# Altium footprint library GRM32ER71E226ME15L.PcbLib: 3 footprints
Each footprint in its own frame and in the unit in brackets; x right, y up, seen from the top. Pads: shape width x height; smd on the part's side, far side on the other; paste and mask are expansions set on the pad; w line width, h text height; cw(c..) or ccw(c..) is an arc to the next point about the centre after c.
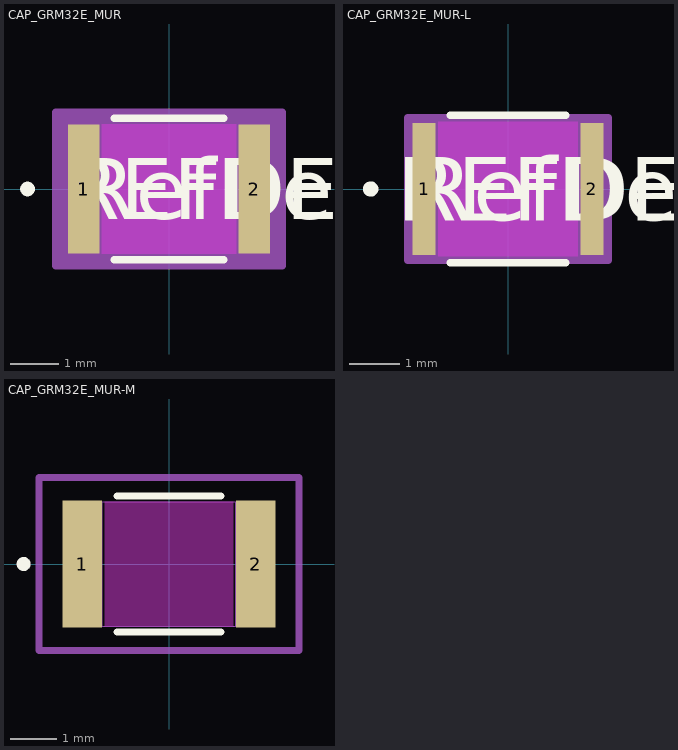
[diagram p0: the footprints below, top view; thin cyan lines are the x and y axes]

## CAP_GRM32E_MUR [mil]
pads (2):
  rect 26x106 smd paste+0 mask+0: 1(-70,0) 2(70,0)
Top Layer keep-out:
  region: -55,-51 -55,51 55,51 55,-51
Top Overlay:
  circle w6: c-116,0 r3
  lines w6: -44.89,-58 44.89,-58 ; -44.89,58 44.89,58
  text "REFDES" at -87.5,-25 h50
  text "RefDes" at -75,-25 h50
Keep-Out Layer:
  region: -55,-53 -55,53 55,53 55,-53
Mechanical 13:
  circle w0: c-65,0 r3
  lines w1: -69,-53 -69,53 ; -69,-53 69,-53 ; -69,-53 -57,-53 -57,53 -69,53 ; -69,-53 -69,53 ; -69,53 69,53 ; 69,-53 69,53 ; 69,-53 69,53 ; 69,-53 57,-53 57,53 69,53
  text "RefDes2" at -87.5,-25 h50
Mechanical 15:
  region: 93,-63 -93,-63 -93,63 93,63
  lines w6: -93,-63 93,-63 93,63 -93,63 -93,-63
3D body "CAP_GRM32E_MUR.step": height 105.98, standoff 0, extent -69.02,-52.99 69.02,52.99

## CAP_GRM32E_MUR-L [mil]
pads (2):
  rect 18x104 smd paste+0 mask+0: 1(-66,0) 2(66,0)
Top Layer keep-out:
  region: -55,-51 -55,51 55,51 55,-51
Top Overlay:
  circle w6: c-108,0 r3
  lines w6: -45.35,-58 45.35,-58 ; -45.35,58 45.35,58
  text "REFDES" at -87.5,-25 h50
  text "RefDes" at -75,-25 h50
Keep-Out Layer:
  region: -55,-53 -55,53 55,53 55,-53
Mechanical 13:
  circle w0: c-61,0 r3
  lines w1: -69,-53 -69,53 ; -69,-53 69,-53 ; -69,-53 -57,-53 -57,53 -69,53 ; -69,-53 -69,53 ; -69,53 69,53 ; 69,-53 69,53 ; 69,-53 69,53 ; 69,-53 57,-53 57,53 69,53
  text "RefDes2" at -87.5,-25 h50
Mechanical 15:
  region: 79,-56 -79,-56 -79,56 79,56
  lines w6: -79,-56 79,-56 79,56 -79,56 -79,-56
3D body "CAP_GRM32E_MUR.step": height 105.98, standoff 0, extent -69.02,-52.99 69.02,52.99

## CAP_GRM32E_MUR-M [mil]
pads (2):
  rect 34x108 smd paste+0 mask+0: 1(-74,0) 2(74,0)
Top Overlay:
  circle w6: c-124,0 r3
  lines w6: -44.53,-58 44.53,-58 ; -44.53,58 44.53,58
Keep-Out Layer:
  region: -55,-53 -55,53 55,53 55,-53
Mechanical 13:
  circle w0: c-69,0 r3
  lines w1: -69,-53 -69,53 ; -69,-53 69,-53 ; -69,-53 -57,-53 -57,53 -69,53 ; -69,-53 -69,53 ; -69,53 69,53 ; 69,-53 69,53 ; 69,-53 69,53 ; 69,-53 57,-53 57,53 69,53
Mechanical 15:
  lines w6: -111,-74 111,-74 111,74 -111,74 -111,-74
3D body "CAP_GRM32E_MUR.step": height 105.98, standoff 0, extent -69.02,-52.99 69.02,52.99